# Altium schematic symbol library Regulator_Linear.SchLib: 1620 symbols (part 15 of 16)
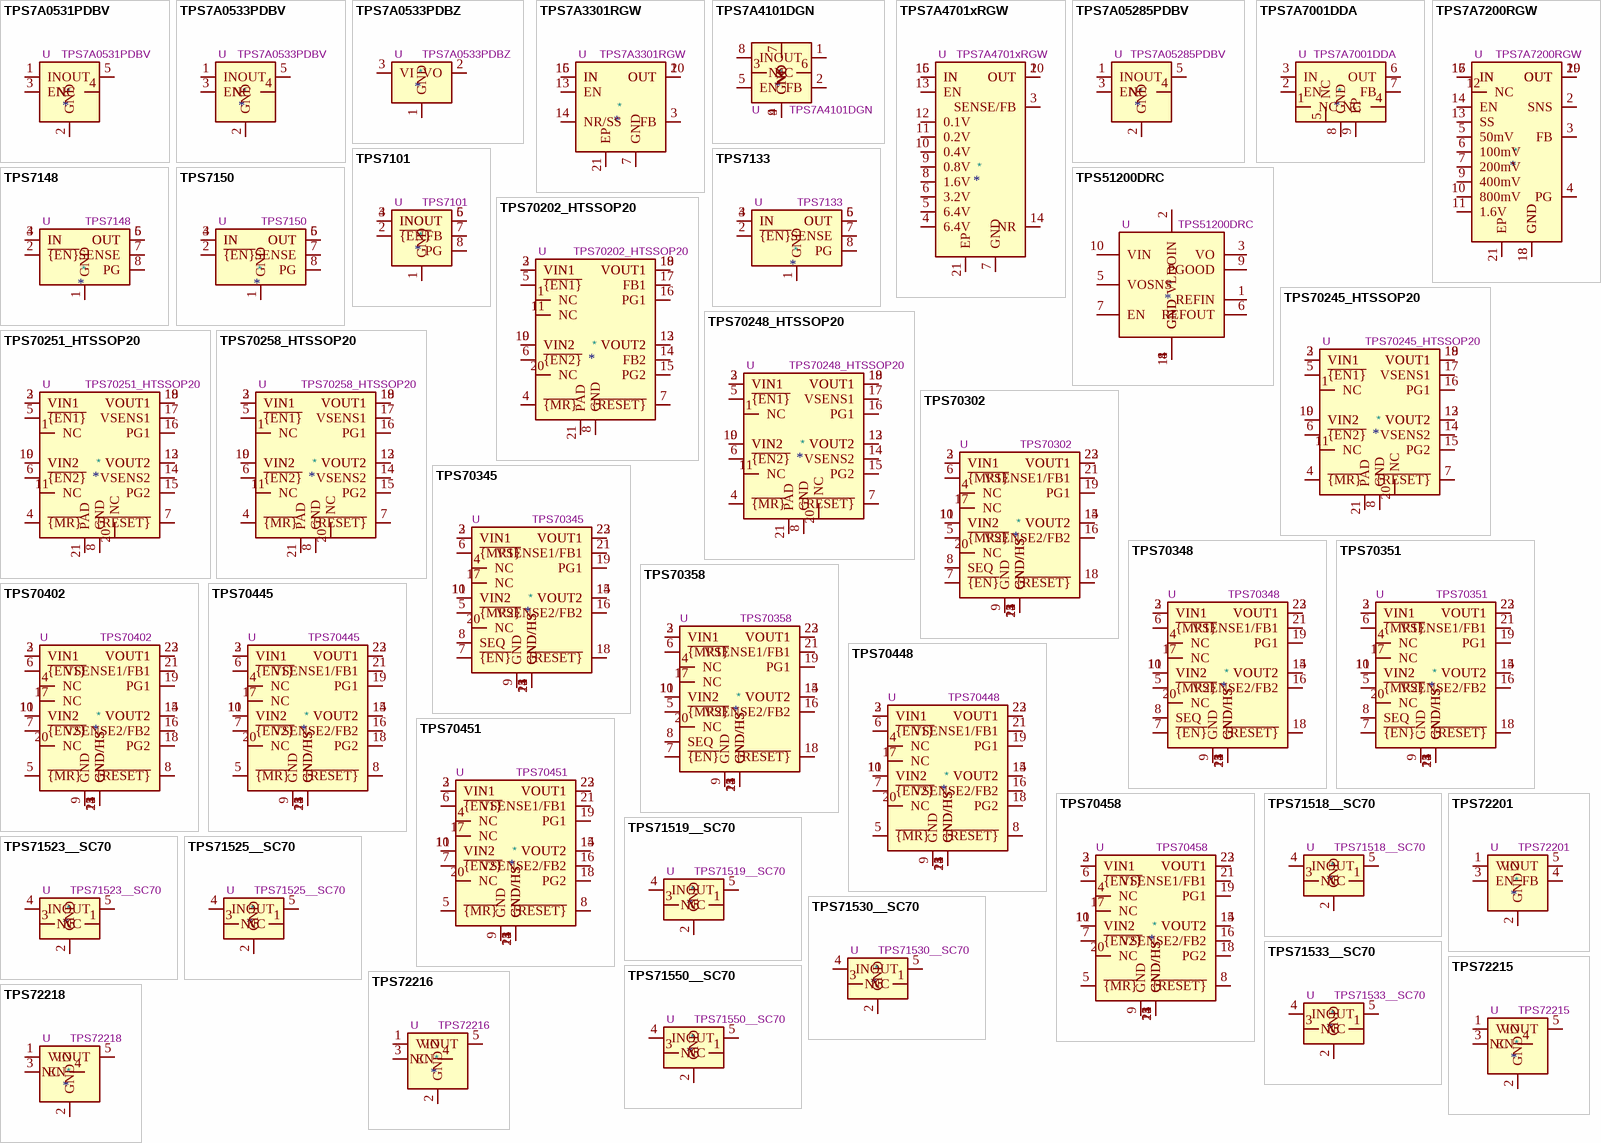
[diagram p54: symbols TPS7A0531PDBV to TPS72218]

## TPS7133
designator *  value TPS7133  Reference: U
500mA Low Drop-out Voltage Regulator, Fixed Output 3.3V, SO-8/DIP-8; ki_keywords: LDO Voltage Regulator 500mA; ki_fp_filters: SOIC*3.9x4.9mm*P1.27mm* DIP*W7.62mm*; Datasheet: http://www.ti.com/lit/ds/symlink/tps71.pdf; Description_: 500mA Low Drop-out Voltage Regulator, Fixed Output 3.3V, SO-8/DIP-8
pins: 1 GND, 2 ~{{EN}}, 3 IN, 4 IN, 5 OUT, 6 OUT, 7 SENSE, 8 PG

## TPS7148
designator *  value TPS7148  Reference: U
500mA Low Drop-out Voltage Regulator, Fixed Output 4.85V, SO-8/DIP-8; ki_keywords: LDO Voltage Regulator 500mA; ki_fp_filters: SOIC*3.9x4.9mm*P1.27mm* DIP*W7.62mm*; Datasheet: http://www.ti.com/lit/ds/symlink/tps71.pdf; Description_: 500mA Low Drop-out Voltage Regulator, Fixed Output 4.85V, SO-8/DIP-8
pins: 1 GND, 2 ~{{EN}}, 3 IN, 4 IN, 5 OUT, 6 OUT, 7 SENSE, 8 PG

## TPS7150
designator *  value TPS7150  Reference: U
500mA Low Drop-out Voltage Regulator, Fixed Output 5V, SO-8/DIP-8; ki_keywords: LDO Voltage Regulator 500mA; ki_fp_filters: SOIC*3.9x4.9mm*P1.27mm* DIP*W7.62mm*; Datasheet: http://www.ti.com/lit/ds/symlink/tps71.pdf; Description_: 500mA Low Drop-out Voltage Regulator, Fixed Output 5V, SO-8/DIP-8
pins: 1 GND, 2 ~{{EN}}, 3 IN, 4 IN, 5 OUT, 6 OUT, 7 SENSE, 8 PG

## TPS51200DRC
designator *  value TPS51200DRC  Reference: U
Sink and Source DDR Termination Regulator, VSON-10; ki_keywords: DDR LDO; ki_fp_filters: *VSON?10?1EP?3x3mm?P0.5mm*; Footprint: Package_SON:VSON-10-1EP_3x3mm_P0.5mm_EP1.65x2.4mm; Datasheet: http://www.ti.com/lit/ds/symlink/tps51200.pdf; Description_: Sink and Source DDR Termination Regulator, VSON-10
pins: 1 REFIN, 2 VLDOIN, 3 VO, 4 GND, 5 VOSNS, 6 REFOUT, 7 EN, 8 GND, 9 PGOOD, 10 VIN, 11 GND

## TPS70202_HTSSOP20
designator *  value TPS70202_HTSSOP20  Reference: U
500mA/250mA Dual Adjustable Low Drop-out Regulator with Voltage Supervisor, PowerPAD TSSOP-20; ki_keywords: Dual LDO Adjustable Regulator 500mA 250mA Voltage Supervisor; ki_fp_filters: HTSSOP*4.4x6.5mm*P0.65mm*; Footprint: Package_SO:HTSSOP-20-1EP_4.4x6.5mm_P0.65mm_EP3.4x6.5mm_ThermalVias; Datasheet: http://www.ti.com/lit/ds/symlink/tps702.pdf; Description_: 500mA/250mA Dual Adjustable Low Drop-out Regulator with Voltage Supervisor, PowerPAD TSSOP-20
pins: 1 NC, 2 VIN1, 3 VIN1, 4 ~{{MR}}, 5 ~{{EN1}}, 6 ~{{EN2}}, 7 ~{{RESET}}, 8 GND, 9 VIN2, 10 VIN2, 11 NC, 12 VOUT2, 13 VOUT2, 14 FB2, 15 PG2, 16 PG1, 17 FB1, 18 VOUT1, 19 VOUT1, 20 NC, 21 PAD

## TPS70245_HTSSOP20
designator *  value TPS70245_HTSSOP20  Reference: U
3.3V 500mA/1.2V 250mA Dual Low Drop-out Regulator with Voltage Supervisor, PowerPAD TSSOP-20; ki_keywords: Dual 3.3V 1.2V LDO Regulator 500mA 250mA Voltage Supervisor; ki_fp_filters: HTSSOP*4.4x6.5mm*P0.65mm*; Footprint: Package_SO:HTSSOP-20-1EP_4.4x6.5mm_P0.65mm_EP3.4x6.5mm_ThermalVias; Datasheet: http://www.ti.com/lit/ds/symlink/tps702.pdf; Description_: 3.3V 500mA/1.2V 250mA Dual Low Drop-out Regulator with Voltage Supervisor, PowerPAD TSSOP-20
pins: 1 NC, 2 VIN1, 3 VIN1, 4 ~{{MR}}, 5 ~{{EN1}}, 6 ~{{EN2}}, 7 ~{{RESET}}, 8 GND, 9 VIN2, 10 VIN2, 11 NC, 12 VOUT2, 13 VOUT2, 14 VSENS2, 15 PG2, 16 PG1, 17 VSENS1, 18 VOUT1, 19 VOUT1, 20 NC, 21 PAD

## TPS70248_HTSSOP20
designator *  value TPS70248_HTSSOP20  Reference: U
3.3V 500mA/1.5V 250mA Dual Low Drop-out Regulator with Voltage Supervisor, PowerPAD TSSOP-20; ki_keywords: Dual 3.3V 1.5V LDO Regulator 500mA 250mA Voltage Supervisor; ki_fp_filters: HTSSOP*4.4x6.5mm*P0.65mm*; Footprint: Package_SO:HTSSOP-20-1EP_4.4x6.5mm_P0.65mm_EP3.4x6.5mm_ThermalVias; Datasheet: http://www.ti.com/lit/ds/symlink/tps702.pdf; Description_: 3.3V 500mA/1.5V 250mA Dual Low Drop-out Regulator with Voltage Supervisor, PowerPAD TSSOP-20
pins: 1 NC, 2 VIN1, 3 VIN1, 4 ~{{MR}}, 5 ~{{EN1}}, 6 ~{{EN2}}, 7 ~{{RESET}}, 8 GND, 9 VIN2, 10 VIN2, 11 NC, 12 VOUT2, 13 VOUT2, 14 VSENS2, 15 PG2, 16 PG1, 17 VSENS1, 18 VOUT1, 19 VOUT1, 20 NC, 21 PAD

## TPS70251_HTSSOP20
designator *  value TPS70251_HTSSOP20  Reference: U
3.3V 500mA/1.8V 250mA Dual Low Drop-out Regulator with Voltage Supervisor, PowerPAD TSSOP-20; ki_keywords: Dual 3.3V 1.8V LDO Regulator 500mA 250mA Voltage Supervisor; ki_fp_filters: HTSSOP*4.4x6.5mm*P0.65mm*; Footprint: Package_SO:HTSSOP-20-1EP_4.4x6.5mm_P0.65mm_EP3.4x6.5mm_ThermalVias; Datasheet: http://www.ti.com/lit/ds/symlink/tps702.pdf; Description_: 3.3V 500mA/1.8V 250mA Dual Low Drop-out Regulator with Voltage Supervisor, PowerPAD TSSOP-20
pins: 1 NC, 2 VIN1, 3 VIN1, 4 ~{{MR}}, 5 ~{{EN1}}, 6 ~{{EN2}}, 7 ~{{RESET}}, 8 GND, 9 VIN2, 10 VIN2, 11 NC, 12 VOUT2, 13 VOUT2, 14 VSENS2, 15 PG2, 16 PG1, 17 VSENS1, 18 VOUT1, 19 VOUT1, 20 NC, 21 PAD

## TPS70258_HTSSOP20
designator *  value TPS70258_HTSSOP20  Reference: U
3.3V 500mA/2.5V 250mA Dual Low Drop-out Regulator with Voltage Supervisor, PowerPAD TSSOP-20; ki_keywords: Dual 3.3V 2.5V LDO Regulator 500mA 250mA Voltage Supervisor; ki_fp_filters: HTSSOP*4.4x6.5mm*P0.65mm*; Footprint: Package_SO:HTSSOP-20-1EP_4.4x6.5mm_P0.65mm_EP3.4x6.5mm_ThermalVias; Datasheet: http://www.ti.com/lit/ds/symlink/tps702.pdf; Description_: 3.3V 500mA/2.5V 250mA Dual Low Drop-out Regulator with Voltage Supervisor, PowerPAD TSSOP-20
pins: 1 NC, 2 VIN1, 3 VIN1, 4 ~{{MR}}, 5 ~{{EN1}}, 6 ~{{EN2}}, 7 ~{{RESET}}, 8 GND, 9 VIN2, 10 VIN2, 11 NC, 12 VOUT2, 13 VOUT2, 14 VSENS2, 15 PG2, 16 PG1, 17 VSENS1, 18 VOUT1, 19 VOUT1, 20 NC, 21 PAD

## TPS70302
designator *  value TPS70302  Reference: U
Dual-Output, Low Dropout Voltage Regulators With Integrated SVS For Split Voltage Systems, Sequenced Outputs, ADJ 1A/ADJ 2A, HTSSOP-24; ki_keywords: dual ldo regulator; ki_fp_filters: HTSSOP*4.4x7.8mm*P0.65mm*; Footprint: Package_SO:HTSSOP-24-1EP_4.4x7.8mm_P0.65mm_EP3.4x7.8mm_Mask2.4x4.68mm_ThermalVias; Datasheet: http://www.ti.com/lit/ds/symlink/tps703.pdf; Description_: Dual-Output, Low Dropout Voltage Regulators With Integrated SVS For Split Voltage Systems, Sequenced Outputs, ADJ 1A/ADJ 2A, HTSSOP-24
pins: 1 GND/HS, 2 VIN1, 3 VIN1, 4 NC, 5 ~{{MR2}}, 6 ~{{MR1}}, 7 ~{{EN}}, 8 SEQ, 9 GND, 10 VIN2, 11 VIN2, 12 GND/HS, 13 GND/HS, 14 VOUT2, 15 VOUT2, 16 VSENSE2/FB2, 17 NC, 18 ~{{RESET}}, 19 PG1, 20 NC, 21 VSENSE1/FB1, 22 VOUT1, 23 VOUT1, 24 GND/HS, 25 GND/HS

## TPS70345
designator *  value TPS70345  Reference: U
Dual-Output, Low Dropout Voltage Regulators With Integrated SVS For Split Voltage Systems, Sequenced Outputs, 3.3V 1A/1.2V 2A, HTSSOP-24; ki_keywords: dual ldo regulator; ki_fp_filters: HTSSOP*4.4x7.8mm*P0.65mm*; Footprint: Package_SO:HTSSOP-24-1EP_4.4x7.8mm_P0.65mm_EP3.4x7.8mm_Mask2.4x4.68mm_ThermalVias; Datasheet: http://www.ti.com/lit/ds/symlink/tps703.pdf; Description_: Dual-Output, Low Dropout Voltage Regulators With Integrated SVS For Split Voltage Systems, Sequenced Outputs, 3.3V 1A/1.2V 2A, HTSSOP-24
pins: 1 GND/HS, 2 VIN1, 3 VIN1, 4 NC, 5 ~{{MR2}}, 6 ~{{MR1}}, 7 ~{{EN}}, 8 SEQ, 9 GND, 10 VIN2, 11 VIN2, 12 GND/HS, 13 GND/HS, 14 VOUT2, 15 VOUT2, 16 VSENSE2/FB2, 17 NC, 18 ~{{RESET}}, 19 PG1, 20 NC, 21 VSENSE1/FB1, 22 VOUT1, 23 VOUT1, 24 GND/HS, 25 GND/HS

## TPS70348
designator *  value TPS70348  Reference: U
Dual-Output, Low Dropout Voltage Regulators With Integrated SVS For Split Voltage Systems, Sequenced Outputs, 3.3V 1A/1.5V 2A, HTSSOP-24; ki_keywords: dual ldo regulator; ki_fp_filters: HTSSOP*4.4x7.8mm*P0.65mm*; Footprint: Package_SO:HTSSOP-24-1EP_4.4x7.8mm_P0.65mm_EP3.4x7.8mm_Mask2.4x4.68mm_ThermalVias; Datasheet: http://www.ti.com/lit/ds/symlink/tps703.pdf; Description_: Dual-Output, Low Dropout Voltage Regulators With Integrated SVS For Split Voltage Systems, Sequenced Outputs, 3.3V 1A/1.5V 2A, HTSSOP-24
pins: 1 GND/HS, 2 VIN1, 3 VIN1, 4 NC, 5 ~{{MR2}}, 6 ~{{MR1}}, 7 ~{{EN}}, 8 SEQ, 9 GND, 10 VIN2, 11 VIN2, 12 GND/HS, 13 GND/HS, 14 VOUT2, 15 VOUT2, 16 VSENSE2/FB2, 17 NC, 18 ~{{RESET}}, 19 PG1, 20 NC, 21 VSENSE1/FB1, 22 VOUT1, 23 VOUT1, 24 GND/HS, 25 GND/HS

## TPS70351
designator *  value TPS70351  Reference: U
Dual-Output, Low Dropout Voltage Regulators With Integrated SVS For Split Voltage Systems, Sequenced Outputs, 3.3V 1A/1.8V 2A, HTSSOP-24; ki_keywords: dual ldo regulator; ki_fp_filters: HTSSOP*4.4x7.8mm*P0.65mm*; Footprint: Package_SO:HTSSOP-24-1EP_4.4x7.8mm_P0.65mm_EP3.4x7.8mm_Mask2.4x4.68mm_ThermalVias; Datasheet: http://www.ti.com/lit/ds/symlink/tps703.pdf; Description_: Dual-Output, Low Dropout Voltage Regulators With Integrated SVS For Split Voltage Systems, Sequenced Outputs, 3.3V 1A/1.8V 2A, HTSSOP-24
pins: 1 GND/HS, 2 VIN1, 3 VIN1, 4 NC, 5 ~{{MR2}}, 6 ~{{MR1}}, 7 ~{{EN}}, 8 SEQ, 9 GND, 10 VIN2, 11 VIN2, 12 GND/HS, 13 GND/HS, 14 VOUT2, 15 VOUT2, 16 VSENSE2/FB2, 17 NC, 18 ~{{RESET}}, 19 PG1, 20 NC, 21 VSENSE1/FB1, 22 VOUT1, 23 VOUT1, 24 GND/HS, 25 GND/HS

## TPS70358
designator *  value TPS70358  Reference: U
Dual-Output, Low Dropout Voltage Regulators With Integrated SVS For Split Voltage Systems, Sequenced Outputs, 3.3V 1A/2.5V 2A, HTSSOP-24; ki_keywords: dual ldo regulator; ki_fp_filters: HTSSOP*4.4x7.8mm*P0.65mm*; Footprint: Package_SO:HTSSOP-24-1EP_4.4x7.8mm_P0.65mm_EP3.4x7.8mm_Mask2.4x4.68mm_ThermalVias; Datasheet: http://www.ti.com/lit/ds/symlink/tps703.pdf; Description_: Dual-Output, Low Dropout Voltage Regulators With Integrated SVS For Split Voltage Systems, Sequenced Outputs, 3.3V 1A/2.5V 2A, HTSSOP-24
pins: 1 GND/HS, 2 VIN1, 3 VIN1, 4 NC, 5 ~{{MR2}}, 6 ~{{MR1}}, 7 ~{{EN}}, 8 SEQ, 9 GND, 10 VIN2, 11 VIN2, 12 GND/HS, 13 GND/HS, 14 VOUT2, 15 VOUT2, 16 VSENSE2/FB2, 17 NC, 18 ~{{RESET}}, 19 PG1, 20 NC, 21 VSENSE1/FB1, 22 VOUT1, 23 VOUT1, 24 GND/HS, 25 GND/HS

## TPS70402
designator *  value TPS70402  Reference: U
Dual-Output, Low Dropout Voltage Regulators With Integrated SVS For Split Voltage Systems, Independent Enable, ADJ 1A/ADJ 2A, HTSSOP-24; ki_keywords: dual ldo regulator; ki_fp_filters: HTSSOP*4.4x7.8mm*P0.65mm*; Footprint: Package_SO:HTSSOP-24-1EP_4.4x7.8mm_P0.65mm_EP3.4x7.8mm_Mask2.4x4.68mm_ThermalVias; Datasheet: http://www.ti.com/lit/ds/symlink/tps704.pdf; Description_: Dual-Output, Low Dropout Voltage Regulators With Integrated SVS For Split Voltage Systems, Independent Enable, ADJ 1A/ADJ 2A, HTSSOP-24
pins: 1 GND/HS, 2 VIN1, 3 VIN1, 4 NC, 5 ~{{MR}}, 6 ~{{EN1}}, 7 ~{{EN2}}, 8 ~{{RESET}}, 9 GND, 10 VIN2, 11 VIN2, 12 GND/HS, 13 GND/HS, 14 VOUT2, 15 VOUT2, 16 VSENSE2/FB2, 17 NC, 18 PG2, 19 PG1, 20 NC, 21 VSENSE1/FB1, 22 VOUT1, 23 VOUT1, 24 GND/HS, 25 GND/HS

## TPS70445
designator *  value TPS70445  Reference: U
Dual-Output, Low Dropout Voltage Regulators With Integrated SVS For Split Voltage Systems, Independent Enable, 3.3V 1A/1.2V 2A, HTSSOP-24; ki_keywords: dual ldo regulator; ki_fp_filters: HTSSOP*4.4x7.8mm*P0.65mm*; Footprint: Package_SO:HTSSOP-24-1EP_4.4x7.8mm_P0.65mm_EP3.4x7.8mm_Mask2.4x4.68mm_ThermalVias; Datasheet: http://www.ti.com/lit/ds/symlink/tps704.pdf; Description_: Dual-Output, Low Dropout Voltage Regulators With Integrated SVS For Split Voltage Systems, Independent Enable, 3.3V 1A/1.2V 2A, HTSSOP-24
pins: 1 GND/HS, 2 VIN1, 3 VIN1, 4 NC, 5 ~{{MR}}, 6 ~{{EN1}}, 7 ~{{EN2}}, 8 ~{{RESET}}, 9 GND, 10 VIN2, 11 VIN2, 12 GND/HS, 13 GND/HS, 14 VOUT2, 15 VOUT2, 16 VSENSE2/FB2, 17 NC, 18 PG2, 19 PG1, 20 NC, 21 VSENSE1/FB1, 22 VOUT1, 23 VOUT1, 24 GND/HS, 25 GND/HS

## TPS70448
designator *  value TPS70448  Reference: U
Dual-Output, Low Dropout Voltage Regulators With Integrated SVS For Split Voltage Systems, Independent Enable, 3.3V 1A/1.5V 2A, HTSSOP-24; ki_keywords: dual ldo regulator; ki_fp_filters: HTSSOP*4.4x7.8mm*P0.65mm*; Footprint: Package_SO:HTSSOP-24-1EP_4.4x7.8mm_P0.65mm_EP3.4x7.8mm_Mask2.4x4.68mm_ThermalVias; Datasheet: http://www.ti.com/lit/ds/symlink/tps704.pdf; Description_: Dual-Output, Low Dropout Voltage Regulators With Integrated SVS For Split Voltage Systems, Independent Enable, 3.3V 1A/1.5V 2A, HTSSOP-24
pins: 1 GND/HS, 2 VIN1, 3 VIN1, 4 NC, 5 ~{{MR}}, 6 ~{{EN1}}, 7 ~{{EN2}}, 8 ~{{RESET}}, 9 GND, 10 VIN2, 11 VIN2, 12 GND/HS, 13 GND/HS, 14 VOUT2, 15 VOUT2, 16 VSENSE2/FB2, 17 NC, 18 PG2, 19 PG1, 20 NC, 21 VSENSE1/FB1, 22 VOUT1, 23 VOUT1, 24 GND/HS, 25 GND/HS

## TPS70451
designator *  value TPS70451  Reference: U
Dual-Output, Low Dropout Voltage Regulators With Integrated SVS For Split Voltage Systems, Independent Enable, 3.3V 1A/1.8V 2A, HTSSOP-24; ki_keywords: dual ldo regulator; ki_fp_filters: HTSSOP*4.4x7.8mm*P0.65mm*; Footprint: Package_SO:HTSSOP-24-1EP_4.4x7.8mm_P0.65mm_EP3.4x7.8mm_Mask2.4x4.68mm_ThermalVias; Datasheet: http://www.ti.com/lit/ds/symlink/tps704.pdf; Description_: Dual-Output, Low Dropout Voltage Regulators With Integrated SVS For Split Voltage Systems, Independent Enable, 3.3V 1A/1.8V 2A, HTSSOP-24
pins: 1 GND/HS, 2 VIN1, 3 VIN1, 4 NC, 5 ~{{MR}}, 6 ~{{EN1}}, 7 ~{{EN2}}, 8 ~{{RESET}}, 9 GND, 10 VIN2, 11 VIN2, 12 GND/HS, 13 GND/HS, 14 VOUT2, 15 VOUT2, 16 VSENSE2/FB2, 17 NC, 18 PG2, 19 PG1, 20 NC, 21 VSENSE1/FB1, 22 VOUT1, 23 VOUT1, 24 GND/HS, 25 GND/HS

## TPS70458
designator *  value TPS70458  Reference: U
Dual-Output, Low Dropout Voltage Regulators With Integrated SVS For Split Voltage Systems, Independent Enable, 3.3V 1A/2.5V 2A, HTSSOP-24; ki_keywords: dual ldo regulator; ki_fp_filters: HTSSOP*4.4x7.8mm*P0.65mm*; Footprint: Package_SO:HTSSOP-24-1EP_4.4x7.8mm_P0.65mm_EP3.4x7.8mm_Mask2.4x4.68mm_ThermalVias; Datasheet: http://www.ti.com/lit/ds/symlink/tps704.pdf; Description_: Dual-Output, Low Dropout Voltage Regulators With Integrated SVS For Split Voltage Systems, Independent Enable, 3.3V 1A/2.5V 2A, HTSSOP-24
pins: 1 GND/HS, 2 VIN1, 3 VIN1, 4 NC, 5 ~{{MR}}, 6 ~{{EN1}}, 7 ~{{EN2}}, 8 ~{{RESET}}, 9 GND, 10 VIN2, 11 VIN2, 12 GND/HS, 13 GND/HS, 14 VOUT2, 15 VOUT2, 16 VSENSE2/FB2, 17 NC, 18 PG2, 19 PG1, 20 NC, 21 VSENSE1/FB1, 22 VOUT1, 23 VOUT1, 24 GND/HS, 25 GND/HS

## TPS71518__SC70
designator *  value TPS71518__SC70  Reference: U
Low-drop Voltage Regulator, Io up to 50mA, Fixed Vo 1.8V, Ignd 3.2uA , SC70.; ki_keywords: LDO regulator voltage; ki_fp_filters: *SC?70*; Footprint: Package_TO_SOT_SMD:SOT-353_SC-70-5; Datasheet: http://www.ti.com/lit/ds/symlink/tps715.pdf; Description_: Low-drop Voltage Regulator, Io up to 50mA, Fixed Vo 1.8V, Ignd 3.2uA , SC70.
pins: 1 NC, 2 GND, 3 NC, 4 IN, 5 OUT

## TPS71519__SC70
designator *  value TPS71519__SC70  Reference: U
Low-drop Voltage Regulator, Io up to 50mA, Fixed Vo 1.9V, Ignd 3.2uA , SC70.; ki_keywords: LDO regulator voltage; ki_fp_filters: *SC?70*; Footprint: Package_TO_SOT_SMD:SOT-353_SC-70-5; Datasheet: http://www.ti.com/lit/ds/symlink/tps715.pdf; Description_: Low-drop Voltage Regulator, Io up to 50mA, Fixed Vo 1.9V, Ignd 3.2uA , SC70.
pins: 1 NC, 2 GND, 3 NC, 4 IN, 5 OUT

## TPS71523__SC70
designator *  value TPS71523__SC70  Reference: U
Low-drop Voltage Regulator, Io up to 50mA, Fixed Vo 2.3V, Ignd 3.2uA , SC70.; ki_keywords: LDO regulator voltage; ki_fp_filters: *SC?70*; Footprint: Package_TO_SOT_SMD:SOT-353_SC-70-5; Datasheet: http://www.ti.com/lit/ds/symlink/tps715.pdf; Description_: Low-drop Voltage Regulator, Io up to 50mA, Fixed Vo 2.3V, Ignd 3.2uA , SC70.
pins: 1 NC, 2 GND, 3 NC, 4 IN, 5 OUT

## TPS71525__SC70
designator *  value TPS71525__SC70  Reference: U
Low-drop Voltage Regulator, Io up to 50mA, Fixed Vo 2.5V, Ignd 3.2uA , SC70.; ki_keywords: LDO regulator voltage; ki_fp_filters: *SC?70*; Footprint: Package_TO_SOT_SMD:SOT-353_SC-70-5; Datasheet: http://www.ti.com/lit/ds/symlink/tps715.pdf; Description_: Low-drop Voltage Regulator, Io up to 50mA, Fixed Vo 2.5V, Ignd 3.2uA , SC70.
pins: 1 NC, 2 GND, 3 NC, 4 IN, 5 OUT

## TPS71530__SC70
designator *  value TPS71530__SC70  Reference: U
Low-drop Voltage Regulator, Io up to 50mA, Fixed Vo 3V, Ignd 3.2uA , SC70.; ki_keywords: LDO regulator voltage; ki_fp_filters: *SC?70*; Footprint: Package_TO_SOT_SMD:SOT-353_SC-70-5; Datasheet: http://www.ti.com/lit/ds/symlink/tps715.pdf; Description_: Low-drop Voltage Regulator, Io up to 50mA, Fixed Vo 3V, Ignd 3.2uA , SC70.
pins: 1 NC, 2 GND, 3 NC, 4 IN, 5 OUT

## TPS71533__SC70
designator *  value TPS71533__SC70  Reference: U
Low-drop Voltage Regulator, Io up to 50mA, Fixed Vo 3.3V, Ignd 3.2uA , SC70.; ki_keywords: LDO regulator voltage; ki_fp_filters: *SC?70*; Footprint: Package_TO_SOT_SMD:SOT-353_SC-70-5; Datasheet: http://www.ti.com/lit/ds/symlink/tps715.pdf; Description_: Low-drop Voltage Regulator, Io up to 50mA, Fixed Vo 3.3V, Ignd 3.2uA , SC70.
pins: 1 NC, 2 GND, 3 NC, 4 IN, 5 OUT

## TPS71550__SC70
designator *  value TPS71550__SC70  Reference: U
Low-drop Voltage Regulator, Io up to 50mA, Fixed Vo 5V, Ignd 3.2uA , SC70.; ki_keywords: LDO regulator voltage; ki_fp_filters: *SC?70*; Footprint: Package_TO_SOT_SMD:SOT-353_SC-70-5; Datasheet: http://www.ti.com/lit/ds/symlink/tps715.pdf; Description_: Low-drop Voltage Regulator, Io up to 50mA, Fixed Vo 5V, Ignd 3.2uA , SC70.
pins: 1 NC, 2 GND, 3 NC, 4 IN, 5 OUT

## TPS72201
designator *  value TPS72201  Reference: U
Low input voltage 50mA LDO variable output voltage, SOT-23-5; ki_keywords: linear low dropout Regulator adjustable; ki_fp_filters: SOT?23*; Footprint: Package_TO_SOT_SMD:SOT-23-5; Datasheet: http://www.ti.com/lit/ds/symlink/tps722.pdf; Description_: Low input voltage 50mA LDO variable output voltage, SOT-23-5
pins: 1 VIN, 2 GND, 3 EN, 4 FB, 5 VOUT

## TPS72215
designator *  value TPS72215  Reference: U
Low input voltage 50mA LDO, 1.5V fixed output voltage, SOT-23-5; ki_keywords: linear low dropout Regulator fixed; ki_fp_filters: SOT?23*; Footprint: Package_TO_SOT_SMD:SOT-23-5; Datasheet: http://www.ti.com/lit/ds/symlink/tps722.pdf; Description_: Low input voltage 50mA LDO, 1.5V fixed output voltage, SOT-23-5
pins: 1 VIN, 2 GND, 3 EN, 4 NC, 5 VOUT

## TPS72216
designator *  value TPS72216  Reference: U
Low input voltage 50mA LDO, 1.6V fixed output voltage, SOT-23-5; ki_keywords: linear low dropout Regulator fixed; ki_fp_filters: SOT?23*; Footprint: Package_TO_SOT_SMD:SOT-23-5; Datasheet: http://www.ti.com/lit/ds/symlink/tps722.pdf; Description_: Low input voltage 50mA LDO, 1.6V fixed output voltage, SOT-23-5
pins: 1 VIN, 2 GND, 3 EN, 4 NC, 5 VOUT

## TPS72218
designator *  value TPS72218  Reference: U
Low input voltage 50mA LDO, 1.8V fixed output voltage, SOT-23-5; ki_keywords: linear low dropout Regulator fixed; ki_fp_filters: SOT?23*; Footprint: Package_TO_SOT_SMD:SOT-23-5; Datasheet: http://www.ti.com/lit/ds/symlink/tps722.pdf; Description_: Low input voltage 50mA LDO, 1.8V fixed output voltage, SOT-23-5
pins: 1 VIN, 2 GND, 3 EN, 4 NC, 5 VOUT

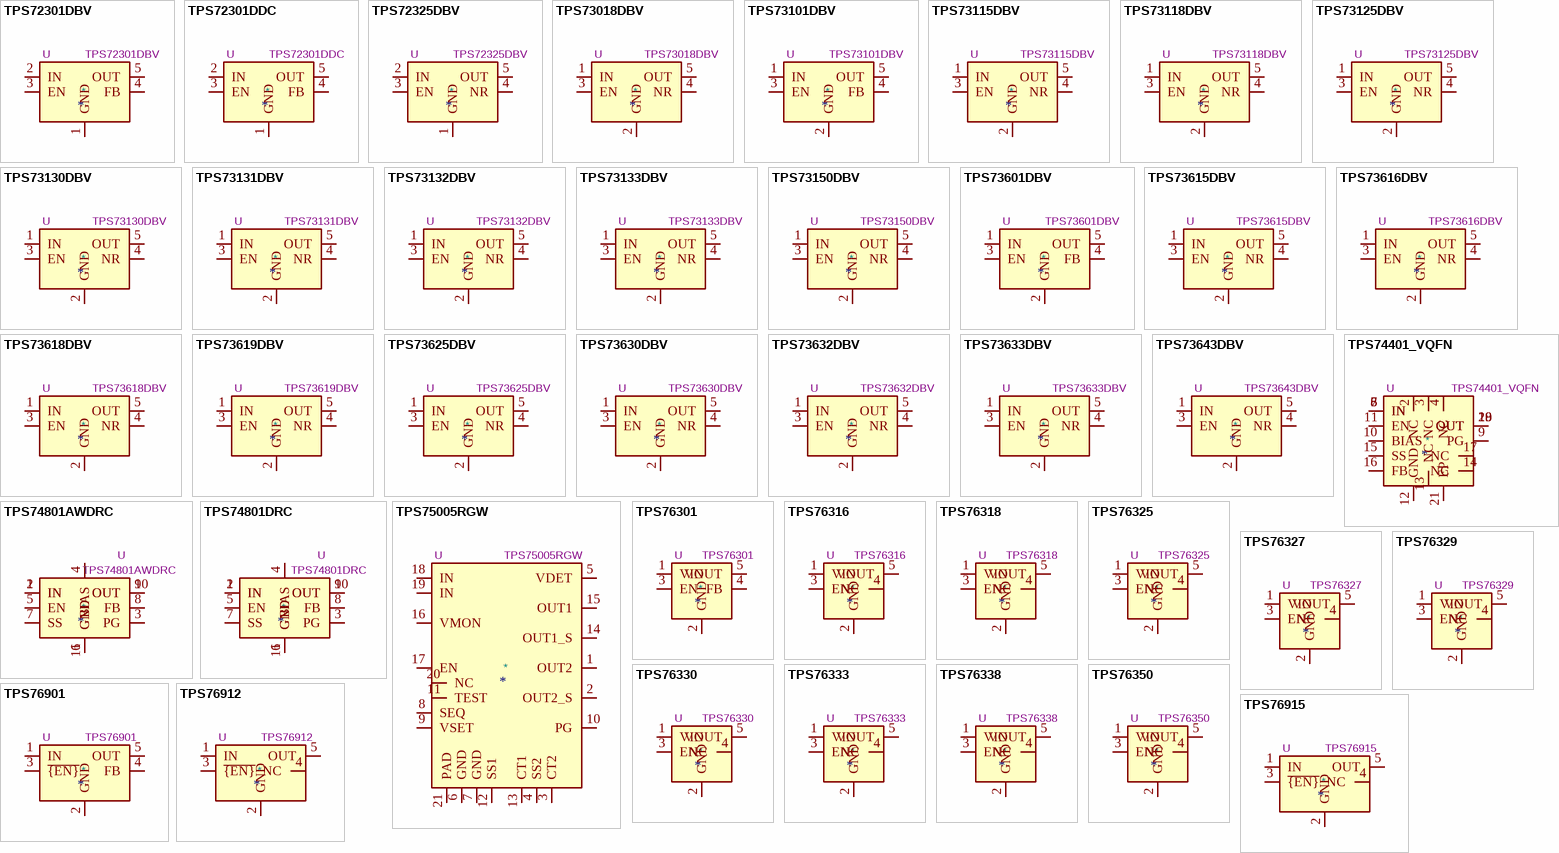
[diagram p38: symbols TPS72301DBV to TPS76915]

## TPS72301DBV
designator *  value TPS72301DBV  Reference: U
200-mA, Low-Noise, High-PSRR, Negative Output Low-Dropout Linear Regulator, Adjustable Output (-1.2 V to -10 V), SOT-23-5; ki_fp_filters: SOT?23*; Footprint: Package_TO_SOT_SMD:SOT-23-5; Datasheet: https://www.ti.com/lit/ds/symlink/tps723.pdf; Description_: 200-mA, Low-Noise, High-PSRR, Negative Output Low-Dropout Linear Regulator, Adjustable Output (-1.2 V to -10 V), SOT-23-5
pins: 1 GND, 2 IN, 3 EN, 4 FB, 5 OUT

## TPS72301DDC
designator *  value TPS72301DDC  Reference: U
200-mA, Low-Noise, High-PSRR, Negative Output Low-Dropout Linear Regulator, Adjustable Output (-1.2 V to -10 V), TSOT-23-5; ki_fp_filters: TSOT?23*; Footprint: Package_TO_SOT_SMD:TSOT-23-5; Datasheet: https://www.ti.com/lit/ds/symlink/tps723.pdf; Description_: 200-mA, Low-Noise, High-PSRR, Negative Output Low-Dropout Linear Regulator, Adjustable Output (-1.2 V to -10 V), TSOT-23-5
pins: 1 GND, 2 IN, 3 EN, 4 FB, 5 OUT

## TPS72325DBV
designator *  value TPS72325DBV  Reference: U
200-mA, Low-Noise, High-PSRR, Negative Output Low-Dropout Linear Regulator, Fixed Output -2.5 V, SOT-23-5; ki_fp_filters: SOT?23*; Footprint: Package_TO_SOT_SMD:SOT-23-5; Datasheet: https://www.ti.com/lit/ds/symlink/tps723.pdf; Description_: 200-mA, Low-Noise, High-PSRR, Negative Output Low-Dropout Linear Regulator, Fixed Output -2.5 V, SOT-23-5
pins: 1 GND, 2 IN, 3 EN, 4 NR, 5 OUT

## TPS73018DBV
designator *  value TPS73018DBV  Reference: U
Low Noise, High PSRR, 200mA Low Drop 1.8V Regulator, SOT-23-5; ki_keywords: Fixed LDO 200mA; ki_fp_filters: SOT?23*; Footprint: Package_TO_SOT_SMD:SOT-23-5; Datasheet: https://www.ti.com/lit/ds/symlink/tps730.pdf; Description_: Low Noise, High PSRR, 200mA Low Drop 1.8V Regulator, SOT-23-5
pins: 1 IN, 2 GND, 3 EN, 4 NR, 5 OUT

## TPS73101DBV
designator *  value TPS73101DBV  Reference: U
Cap free NMOS 150mA Low Drop Adjustable Out Regulator, SOT-23-5; ki_keywords: Cap free Adjustable LDO 150mA; ki_fp_filters: SOT?23*; Footprint: Package_TO_SOT_SMD:SOT-23-5; Datasheet: http://www.ti.com/lit/ds/symlink/tps731.pdf; Description_: Cap free NMOS 150mA Low Drop Adjustable Out Regulator, SOT-23-5
pins: 1 IN, 2 GND, 3 EN, 4 FB, 5 OUT

## TPS73115DBV
designator *  value TPS73115DBV  Reference: U
Cap free NMOS 150mA Low Drop 1.5V Regulator, SOT-23-5; ki_keywords: Cap free Fixed LDO 150mA; ki_fp_filters: SOT?23*; Footprint: Package_TO_SOT_SMD:SOT-23-5; Datasheet: http://www.ti.com/lit/ds/symlink/tps731.pdf; Description_: Cap free NMOS 150mA Low Drop 1.5V Regulator, SOT-23-5
pins: 1 IN, 2 GND, 3 EN, 4 NR, 5 OUT

## TPS73118DBV
designator *  value TPS73118DBV  Reference: U
Cap free NMOS 150mA Low Drop 1.8V Regulator, SOT-23-5; ki_keywords: Cap free Fixed LDO 150mA; ki_fp_filters: SOT?23*; Footprint: Package_TO_SOT_SMD:SOT-23-5; Datasheet: http://www.ti.com/lit/ds/symlink/tps731.pdf; Description_: Cap free NMOS 150mA Low Drop 1.8V Regulator, SOT-23-5
pins: 1 IN, 2 GND, 3 EN, 4 NR, 5 OUT

## TPS73125DBV
designator *  value TPS73125DBV  Reference: U
Cap free NMOS 150mA Low Drop 2.5V Regulator, SOT-23-5; ki_keywords: Cap free Fixed LDO 150mA; ki_fp_filters: SOT?23*; Footprint: Package_TO_SOT_SMD:SOT-23-5; Datasheet: http://www.ti.com/lit/ds/symlink/tps731.pdf; Description_: Cap free NMOS 150mA Low Drop 2.5V Regulator, SOT-23-5
pins: 1 IN, 2 GND, 3 EN, 4 NR, 5 OUT

## TPS73130DBV
designator *  value TPS73130DBV  Reference: U
Cap free NMOS 150mA Low Drop 3.0V Regulator, SOT-23-5; ki_keywords: Cap free Fixed LDO 150mA; ki_fp_filters: SOT?23*; Footprint: Package_TO_SOT_SMD:SOT-23-5; Datasheet: http://www.ti.com/lit/ds/symlink/tps731.pdf; Description_: Cap free NMOS 150mA Low Drop 3.0V Regulator, SOT-23-5
pins: 1 IN, 2 GND, 3 EN, 4 NR, 5 OUT

## TPS73131DBV
designator *  value TPS73131DBV  Reference: U
Cap free NMOS 150mA Low Drop 3.1V Regulator, SOT-23-5; ki_keywords: Cap free Fixed LDO 150mA; ki_fp_filters: SOT?23*; Footprint: Package_TO_SOT_SMD:SOT-23-5; Datasheet: http://www.ti.com/lit/ds/symlink/tps731.pdf; Description_: Cap free NMOS 150mA Low Drop 3.1V Regulator, SOT-23-5
pins: 1 IN, 2 GND, 3 EN, 4 NR, 5 OUT

## TPS73132DBV
designator *  value TPS73132DBV  Reference: U
Cap free NMOS 150mA Low Drop 3.2V Regulator, SOT-23-5; ki_keywords: Cap free Fixed LDO 150mA; ki_fp_filters: SOT?23*; Footprint: Package_TO_SOT_SMD:SOT-23-5; Datasheet: http://www.ti.com/lit/ds/symlink/tps731.pdf; Description_: Cap free NMOS 150mA Low Drop 3.2V Regulator, SOT-23-5
pins: 1 IN, 2 GND, 3 EN, 4 NR, 5 OUT

## TPS73133DBV
designator *  value TPS73133DBV  Reference: U
Cap free NMOS 150mA Low Drop 3.3V Regulator, SOT-23-5; ki_keywords: Cap free Fixed LDO 150mA; ki_fp_filters: SOT?23*; Footprint: Package_TO_SOT_SMD:SOT-23-5; Datasheet: http://www.ti.com/lit/ds/symlink/tps731.pdf; Description_: Cap free NMOS 150mA Low Drop 3.3V Regulator, SOT-23-5
pins: 1 IN, 2 GND, 3 EN, 4 NR, 5 OUT

## TPS73150DBV
designator *  value TPS73150DBV  Reference: U
Cap free NMOS 150mA Low Drop 5.0V Regulator, SOT-23-5; ki_keywords: Cap free Fixed LDO 150mA; ki_fp_filters: SOT?23*; Footprint: Package_TO_SOT_SMD:SOT-23-5; Datasheet: http://www.ti.com/lit/ds/symlink/tps731.pdf; Description_: Cap free NMOS 150mA Low Drop 5.0V Regulator, SOT-23-5
pins: 1 IN, 2 GND, 3 EN, 4 NR, 5 OUT

## TPS73601DBV
designator *  value TPS73601DBV  Reference: U
Cap free NMOS 400mA Low Drop Adjustable Out Regulator, SOT-23-5; ki_keywords: Cap free Adjustable LDO 400mA; ki_fp_filters: SOT?23*; Footprint: Package_TO_SOT_SMD:SOT-23-5; Datasheet: http://www.ti.com/lit/ds/symlink/tps736.pdf; Description_: Cap free NMOS 400mA Low Drop Adjustable Out Regulator, SOT-23-5
pins: 1 IN, 2 GND, 3 EN, 4 FB, 5 OUT

## TPS73615DBV
designator *  value TPS73615DBV  Reference: U
Cap free NMOS 400mA Low Drop 1.5V Regulator, SOT-23-5; ki_keywords: Cap free Fixed LDO 400mA; ki_fp_filters: SOT?23*; Footprint: Package_TO_SOT_SMD:SOT-23-5; Datasheet: http://www.ti.com/lit/ds/symlink/tps736.pdf; Description_: Cap free NMOS 400mA Low Drop 1.5V Regulator, SOT-23-5
pins: 1 IN, 2 GND, 3 EN, 4 NR, 5 OUT

## TPS73616DBV
designator *  value TPS73616DBV  Reference: U
Cap free NMOS 400mA Low Drop 1.6V Regulator, SOT-23-5; ki_keywords: Cap free Fixed LDO 400mA; ki_fp_filters: SOT?23*; Footprint: Package_TO_SOT_SMD:SOT-23-5; Datasheet: http://www.ti.com/lit/ds/symlink/tps736.pdf; Description_: Cap free NMOS 400mA Low Drop 1.6V Regulator, SOT-23-5
pins: 1 IN, 2 GND, 3 EN, 4 NR, 5 OUT

## TPS73618DBV
designator *  value TPS73618DBV  Reference: U
Cap free NMOS 400mA Low Drop 1.8V Regulator, SOT-23-5; ki_keywords: Cap free Fixed LDO 400mA; ki_fp_filters: SOT?23*; Footprint: Package_TO_SOT_SMD:SOT-23-5; Datasheet: http://www.ti.com/lit/ds/symlink/tps736.pdf; Description_: Cap free NMOS 400mA Low Drop 1.8V Regulator, SOT-23-5
pins: 1 IN, 2 GND, 3 EN, 4 NR, 5 OUT

## TPS73619DBV
designator *  value TPS73619DBV  Reference: U
Cap free NMOS 400mA Low Drop 1.9V Regulator, SOT-23-5; ki_keywords: Cap free Fixed LDO 400mA; ki_fp_filters: SOT?23*; Footprint: Package_TO_SOT_SMD:SOT-23-5; Datasheet: http://www.ti.com/lit/ds/symlink/tps736.pdf; Description_: Cap free NMOS 400mA Low Drop 1.9V Regulator, SOT-23-5
pins: 1 IN, 2 GND, 3 EN, 4 NR, 5 OUT

## TPS73625DBV
designator *  value TPS73625DBV  Reference: U
Cap free NMOS 400mA Low Drop 2.5V Regulator, SOT-23-5; ki_keywords: Cap free Fixed LDO 400mA; ki_fp_filters: SOT?23*; Footprint: Package_TO_SOT_SMD:SOT-23-5; Datasheet: http://www.ti.com/lit/ds/symlink/tps736.pdf; Description_: Cap free NMOS 400mA Low Drop 2.5V Regulator, SOT-23-5
pins: 1 IN, 2 GND, 3 EN, 4 NR, 5 OUT

## TPS73630DBV
designator *  value TPS73630DBV  Reference: U
Cap free NMOS 400mA Low Drop 3.0V Regulator, SOT-23-5; ki_keywords: Cap free Fixed LDO 400mA; ki_fp_filters: SOT?23*; Footprint: Package_TO_SOT_SMD:SOT-23-5; Datasheet: http://www.ti.com/lit/ds/symlink/tps736.pdf; Description_: Cap free NMOS 400mA Low Drop 3.0V Regulator, SOT-23-5
pins: 1 IN, 2 GND, 3 EN, 4 NR, 5 OUT

## TPS73632DBV
designator *  value TPS73632DBV  Reference: U
Cap free NMOS 400mA Low Drop 3.2V Regulator, SOT-23-5; ki_keywords: Cap free Fixed LDO 400mA; ki_fp_filters: SOT?23*; Footprint: Package_TO_SOT_SMD:SOT-23-5; Datasheet: http://www.ti.com/lit/ds/symlink/tps736.pdf; Description_: Cap free NMOS 400mA Low Drop 3.2V Regulator, SOT-23-5
pins: 1 IN, 2 GND, 3 EN, 4 NR, 5 OUT

## TPS73633DBV
designator *  value TPS73633DBV  Reference: U
Cap free NMOS 400mA Low Drop 3.3V Regulator, SOT-23-5; ki_keywords: Cap free Fixed LDO 400mA; ki_fp_filters: SOT?23*; Footprint: Package_TO_SOT_SMD:SOT-23-5; Datasheet: http://www.ti.com/lit/ds/symlink/tps736.pdf; Description_: Cap free NMOS 400mA Low Drop 3.3V Regulator, SOT-23-5
pins: 1 IN, 2 GND, 3 EN, 4 NR, 5 OUT

## TPS73643DBV
designator *  value TPS73643DBV  Reference: U
Cap free NMOS 400mA Low Drop 4.3V Regulator, SOT-23-5; ki_keywords: Cap free Fixed LDO 400mA; ki_fp_filters: SOT?23*; Footprint: Package_TO_SOT_SMD:SOT-23-5; Datasheet: http://www.ti.com/lit/ds/symlink/tps736.pdf; Description_: Cap free NMOS 400mA Low Drop 4.3V Regulator, SOT-23-5
pins: 1 IN, 2 GND, 3 EN, 4 NR, 5 OUT

## TPS74401_VQFN
designator *  value TPS74401_VQFN  Reference: U
0.8 to 3.6V adjustable, 3.0-A, Ultra-LDO with Programmable Soft-Start; ki_keywords: LDO Voltage Regulator; ki_fp_filters: Texas*VQFN*RGR* Texas*VQFN*RGW*; Datasheet: http://www.ti.com/general/docs/lit/getliterature.tsp?genericPartNumber=tps74401&fileType=pdf; Description_: 0.8 to 3.6V adjustable, 3.0-A, Ultra-LDO with Programmable Soft-Start
pins: 1 OUT, 2 NC, 3 NC, 4 NC, 5 IN, 6 IN, 7 IN, 8 IN, 9 PG, 10 BIAS, 11 EN, 12 GND, 13 NC, 14 NC, 15 SS, 16 FB, 17 NC, 18 OUT, 19 OUT, 20 OUT, 21 EP

## TPS74801AWDRC
designator *  value TPS74801AWDRC  Reference: U
Texas Instruments 1.5A, Low-Dropout Linear Regulator With Programmable Soft-Start, 0.8-6.0Vin, 2.7-6.0Vbias, 0.8-3.6Vout; ki_keywords: regulator LDO positive adjustable; ki_fp_filters: VSON*EP*3x3mm*P0.5mm*; Footprint: Package_SON:VSON-10-1EP_3x3mm_P0.5mm_EP1.65x2.4mm_ThermalVias; Datasheet: https://www.ti.com/lit/ds/symlink/tps748a.pdf; Description_: Texas Instruments 1.5A, Low-Dropout Linear Regulator With Programmable Soft-Start, 0.8-6.0Vin, 2.7-6.0Vbias, 0.8-3.6Vout
pins: 1 IN, 2 IN, 3 PG, 4 BIAS, 5 EN, 6 GND, 7 SS, 8 FB, 9 OUT, 10 OUT, 11 GND

## TPS74801DRC
designator *  value TPS74801DRC  Reference: U
Texas Instruments 1.5A, Low-Dropout Linear Regulator With Programmable Soft-Start, 0.8-5.5Vin, 2.7-6.0Vbias, 0.8-3.6Vout; ki_keywords: regulator LDO positive adjustable; ki_fp_filters: VSON*EP*3x3mm*P0.5mm*; Footprint: Package_SON:VSON-10-1EP_3x3mm_P0.5mm_EP1.65x2.4mm_ThermalVias; Datasheet: https://www.ti.com/lit/ds/symlink/tps74801.pdf; Description_: Texas Instruments 1.5A, Low-Dropout Linear Regulator With Programmable Soft-Start, 0.8-5.5Vin, 2.7-6.0Vbias, 0.8-3.6Vout
pins: 1 IN, 2 IN, 3 PG, 4 BIAS, 5 EN, 6 GND, 7 SS, 8 FB, 9 OUT, 10 OUT, 11 GND

## TPS75005RGW
designator *  value TPS75005RGW  Reference: U
Integrated MCU Power Solution, Dual Low Drop-Out Regulator 500mA with Supervisor, VQFN20; ki_keywords: Dual LDO Regulator Dual Integrated Power SVS Supervisor; ki_fp_filters: QFN*5x5mm*P0.65mm*; Footprint: Package_DFN_QFN:QFN-20-1EP_5x5mm_P0.65mm_EP3.35x3.35mm; Datasheet: http://www.ti.com/lit/ds/symlink/tps75005.pdf; Description_: Integrated MCU Power Solution, Dual Low Drop-Out Regulator 500mA with Supervisor, VQFN20
pins: 1 OUT2, 2 OUT2_S, 3 CT2, 4 SS2, 5 VDET, 6 GND, 7 GND, 8 SEQ, 9 VSET, 10 PG, 11 TEST, 12 SS1, 13 CT1, 14 OUT1_S, 15 OUT1, 16 VMON, 17 EN, 18 IN, 19 IN, 20 NC, 21 PAD

## TPS76301
designator *  value TPS76301  Reference: U
Low power 150mA LDO variable output voltage, SOT-23-5; ki_keywords: linear low dropout Regulator adjustable; ki_fp_filters: SOT?23*; Footprint: Package_TO_SOT_SMD:SOT-23-5; Datasheet: http://www.ti.com/lit/ds/symlink/tps763.pdf; Description_: Low power 150mA LDO variable output voltage, SOT-23-5
pins: 1 VIN, 2 GND, 3 EN, 4 FB, 5 VOUT

## TPS76316
designator *  value TPS76316  Reference: U
Low power 150mA LDO, 1.6V fixed output voltage, SOT-23-5; ki_keywords: linear low dropout Regulator; ki_fp_filters: SOT?23*; Footprint: Package_TO_SOT_SMD:SOT-23-5; Datasheet: http://www.ti.com/lit/ds/symlink/tps763.pdf; Description_: Low power 150mA LDO, 1.6V fixed output voltage, SOT-23-5
pins: 1 VIN, 2 GND, 3 EN, 4 NC, 5 VOUT

## TPS76318
designator *  value TPS76318  Reference: U
Low power 150mA LDO 1.8V fixed output voltage, SOT-23-5; ki_keywords: linear low dropout Regulator fixed; ki_fp_filters: SOT?23*; Footprint: Package_TO_SOT_SMD:SOT-23-5; Datasheet: http://www.ti.com/lit/ds/symlink/tps763.pdf; Description_: Low power 150mA LDO 1.8V fixed output voltage, SOT-23-5
pins: 1 VIN, 2 GND, 3 EN, 4 NC, 5 VOUT

## TPS76325
designator *  value TPS76325  Reference: U
Low power 150mA LDO 2.5V fixed output voltage, SOT-23-5; ki_keywords: linear low dropout Regulator fixed; ki_fp_filters: SOT?23*; Footprint: Package_TO_SOT_SMD:SOT-23-5; Datasheet: http://www.ti.com/lit/ds/symlink/tps763.pdf; Description_: Low power 150mA LDO 2.5V fixed output voltage, SOT-23-5
pins: 1 VIN, 2 GND, 3 EN, 4 NC, 5 VOUT

## TPS76327
designator *  value TPS76327  Reference: U
Low power 150mA LDO 2.7V fixed output voltage, SOT-23-5; ki_keywords: linear low dropout Regulator fixed; ki_fp_filters: SOT?23*; Footprint: Package_TO_SOT_SMD:SOT-23-5; Datasheet: http://www.ti.com/lit/ds/symlink/tps763.pdf; Description_: Low power 150mA LDO 2.7V fixed output voltage, SOT-23-5
pins: 1 VIN, 2 GND, 3 EN, 4 NC, 5 VOUT

## TPS76329
designator *  value TPS76329  Reference: U
Low power 150mA LDO 2.8V fixed output voltage, SOT-23-5; ki_keywords: linear low dropout Regulator fixed; ki_fp_filters: SOT?23*; Footprint: Package_TO_SOT_SMD:SOT-23-5; Datasheet: http://www.ti.com/lit/ds/symlink/tps763.pdf; Description_: Low power 150mA LDO 2.8V fixed output voltage, SOT-23-5
pins: 1 VIN, 2 GND, 3 EN, 4 NC, 5 VOUT

## TPS76330
designator *  value TPS76330  Reference: U
Low power 150mA LDO 3.0V fixed output voltage, SOT-23-5; ki_keywords: linear low dropout Regulator fixed; ki_fp_filters: SOT?23*; Footprint: Package_TO_SOT_SMD:SOT-23-5; Datasheet: http://www.ti.com/lit/ds/symlink/tps763.pdf; Description_: Low power 150mA LDO 3.0V fixed output voltage, SOT-23-5
pins: 1 VIN, 2 GND, 3 EN, 4 NC, 5 VOUT

## TPS76333
designator *  value TPS76333  Reference: U
Low power 150mA LDO 3.3V fixed output voltage, SOT-23-5; ki_keywords: linear low dropout Regulator fixed; ki_fp_filters: SOT?23*; Footprint: Package_TO_SOT_SMD:SOT-23-5; Datasheet: http://www.ti.com/lit/ds/symlink/tps763.pdf; Description_: Low power 150mA LDO 3.3V fixed output voltage, SOT-23-5
pins: 1 VIN, 2 GND, 3 EN, 4 NC, 5 VOUT

## TPS76338
designator *  value TPS76338  Reference: U
Low power 150mA LDO 3.8V fixed output voltage, SOT-23-5; ki_keywords: linear low dropout Regulator fixed; ki_fp_filters: SOT?23*; Footprint: Package_TO_SOT_SMD:SOT-23-5; Datasheet: http://www.ti.com/lit/ds/symlink/tps763.pdf; Description_: Low power 150mA LDO 3.8V fixed output voltage, SOT-23-5
pins: 1 VIN, 2 GND, 3 EN, 4 NC, 5 VOUT

## TPS76350
designator *  value TPS76350  Reference: U
Low power 150mA LDO 5.0V fixed output voltage, SOT-23-5; ki_keywords: linear low dropout Regulator fixed; ki_fp_filters: SOT?23*; Footprint: Package_TO_SOT_SMD:SOT-23-5; Datasheet: http://www.ti.com/lit/ds/symlink/tps763.pdf; Description_: Low power 150mA LDO 5.0V fixed output voltage, SOT-23-5
pins: 1 VIN, 2 GND, 3 EN, 4 NC, 5 VOUT

## TPS76901
designator *  value TPS76901  Reference: U
Ultra Low Power 100mA Low Drop Adjustable Out Regulator, SOT-23-5; ki_keywords: Ultra Low Power Adjustable LDO 100mA; ki_fp_filters: SOT?23*; Footprint: Package_TO_SOT_SMD:SOT-23-5; Datasheet: http://www.ti.com/lit/ds/symlink/tps769.pdf; Description_: Ultra Low Power 100mA Low Drop Adjustable Out Regulator, SOT-23-5
pins: 1 IN, 2 GND, 3 ~{{EN}}, 4 FB, 5 OUT

## TPS76912
designator *  value TPS76912  Reference: U
Ultra Low Power 100mA Low Drop Out Regulator 1.2V, SOT-23-5; ki_keywords: Ultra Low Power Fixed LDO 100mA; ki_fp_filters: SOT?23*; Footprint: Package_TO_SOT_SMD:SOT-23-5; Datasheet: http://www.ti.com/lit/ds/symlink/tps769.pdf; Description_: Ultra Low Power 100mA Low Drop Out Regulator 1.2V, SOT-23-5
pins: 1 IN, 2 GND, 3 ~{{EN}}, 4 NC, 5 OUT

## TPS76915
designator *  value TPS76915  Reference: U
Ultra Low Power 100mA Low Drop Out Regulator 1.5V, SOT-23-5; ki_keywords: Ultra Low Power Fixed LDO 100mA; ki_fp_filters: SOT?23*; Footprint: Package_TO_SOT_SMD:SOT-23-5; Datasheet: http://www.ti.com/lit/ds/symlink/tps769.pdf; Description_: Ultra Low Power 100mA Low Drop Out Regulator 1.5V, SOT-23-5
pins: 1 IN, 2 GND, 3 ~{{EN}}, 4 NC, 5 OUT

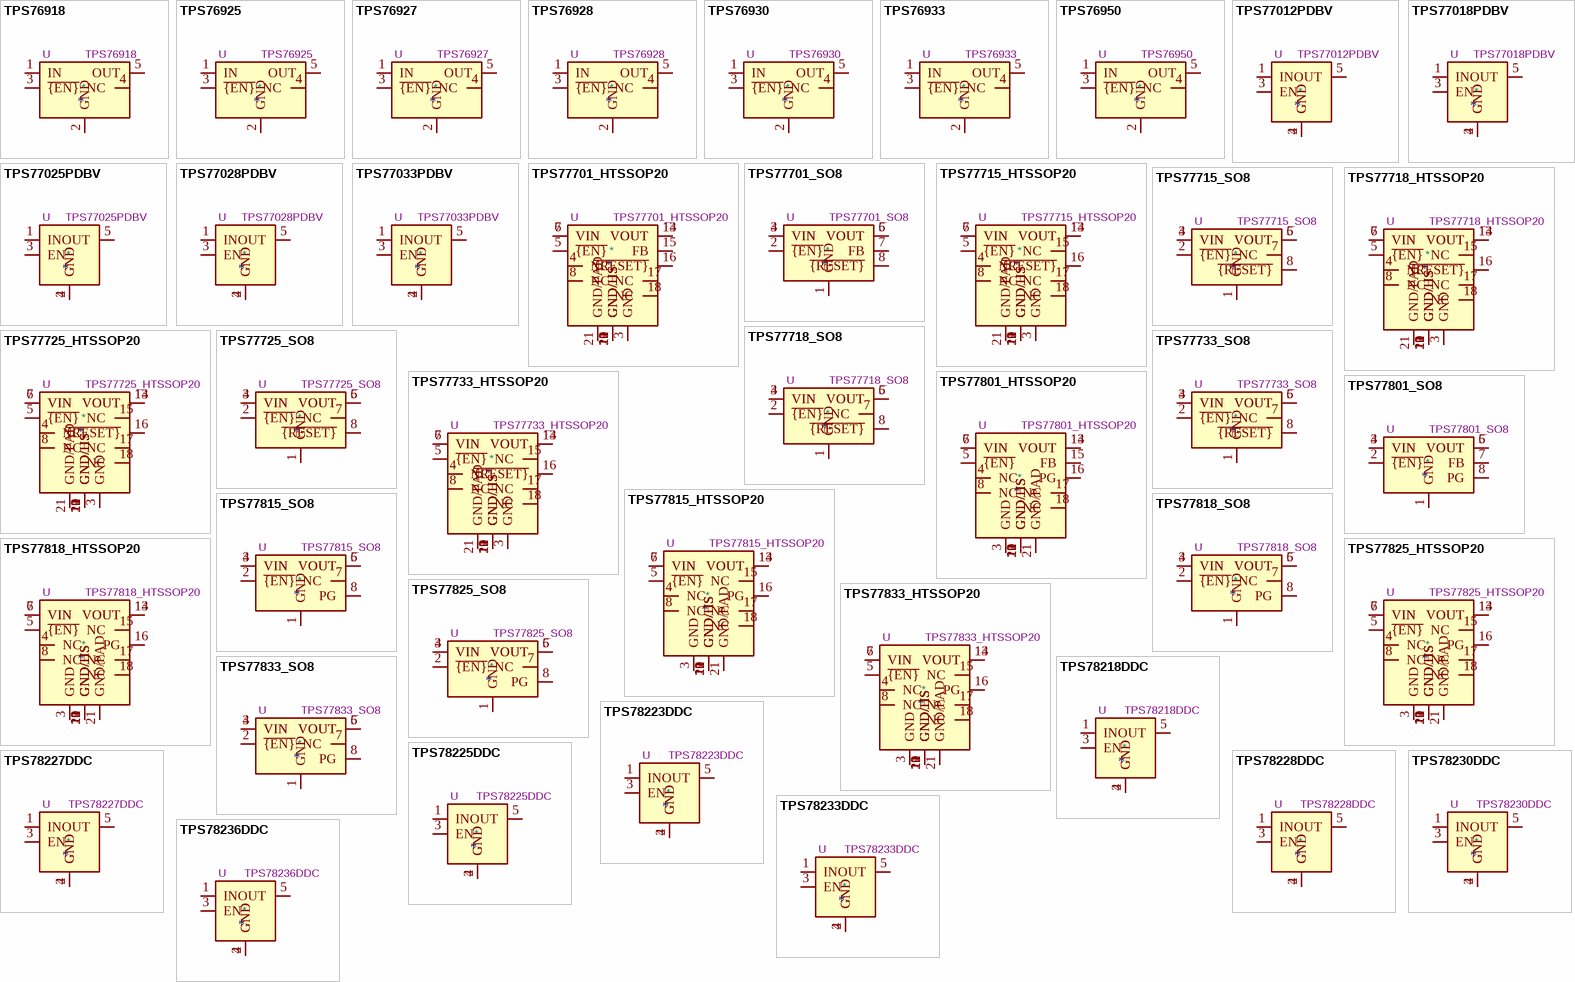
[diagram p39: symbols TPS76918 to TPS78236DDC]

## TPS76918
designator *  value TPS76918  Reference: U
Ultra Low Power 100mA Low Drop Out Regulator 1.8V, SOT-23-5; ki_keywords: Ultra Low Power Fixed LDO 100mA; ki_fp_filters: SOT?23*; Footprint: Package_TO_SOT_SMD:SOT-23-5; Datasheet: http://www.ti.com/lit/ds/symlink/tps769.pdf; Description_: Ultra Low Power 100mA Low Drop Out Regulator 1.8V, SOT-23-5
pins: 1 IN, 2 GND, 3 ~{{EN}}, 4 NC, 5 OUT

## TPS76925
designator *  value TPS76925  Reference: U
Ultra Low Power 100mA Low Drop Out Regulator 2.5V, SOT-23-5; ki_keywords: Ultra Low Power Fixed LDO 100mA; ki_fp_filters: SOT?23*; Footprint: Package_TO_SOT_SMD:SOT-23-5; Datasheet: http://www.ti.com/lit/ds/symlink/tps769.pdf; Description_: Ultra Low Power 100mA Low Drop Out Regulator 2.5V, SOT-23-5
pins: 1 IN, 2 GND, 3 ~{{EN}}, 4 NC, 5 OUT

## TPS76927
designator *  value TPS76927  Reference: U
Ultra Low Power 100mA Low Drop Out Regulator 2.7V, SOT-23-5; ki_keywords: Ultra Low Power Fixed LDO 100mA; ki_fp_filters: SOT?23*; Footprint: Package_TO_SOT_SMD:SOT-23-5; Datasheet: http://www.ti.com/lit/ds/symlink/tps769.pdf; Description_: Ultra Low Power 100mA Low Drop Out Regulator 2.7V, SOT-23-5
pins: 1 IN, 2 GND, 3 ~{{EN}}, 4 NC, 5 OUT

## TPS76928
designator *  value TPS76928  Reference: U
Ultra Low Power 100mA Low Drop Out Regulator 2.8V, SOT-23-5; ki_keywords: Ultra Low Power Fixed LDO 100mA; ki_fp_filters: SOT?23*; Footprint: Package_TO_SOT_SMD:SOT-23-5; Datasheet: http://www.ti.com/lit/ds/symlink/tps769.pdf; Description_: Ultra Low Power 100mA Low Drop Out Regulator 2.8V, SOT-23-5
pins: 1 IN, 2 GND, 3 ~{{EN}}, 4 NC, 5 OUT

## TPS76930
designator *  value TPS76930  Reference: U
Ultra Low Power 100mA Low Drop Out Regulator 3.0V, SOT-23-5; ki_keywords: Ultra Low Power Fixed LDO 100mA; ki_fp_filters: SOT?23*; Footprint: Package_TO_SOT_SMD:SOT-23-5; Datasheet: http://www.ti.com/lit/ds/symlink/tps769.pdf; Description_: Ultra Low Power 100mA Low Drop Out Regulator 3.0V, SOT-23-5
pins: 1 IN, 2 GND, 3 ~{{EN}}, 4 NC, 5 OUT

## TPS76933
designator *  value TPS76933  Reference: U
Ultra Low Power 100mA Low Drop Out Regulator 3.3V, SOT-23-5; ki_keywords: Ultra Low Power Fixed LDO 100mA; ki_fp_filters: SOT?23*; Footprint: Package_TO_SOT_SMD:SOT-23-5; Datasheet: http://www.ti.com/lit/ds/symlink/tps769.pdf; Description_: Ultra Low Power 100mA Low Drop Out Regulator 3.3V, SOT-23-5
pins: 1 IN, 2 GND, 3 ~{{EN}}, 4 NC, 5 OUT

## TPS76950
designator *  value TPS76950  Reference: U
Ultra Low Power 100mA Low Drop Out Regulator 5.0V, SOT-23-5; ki_keywords: Ultra Low Power Fixed LDO 100mA 5V; ki_fp_filters: SOT?23*; Footprint: Package_TO_SOT_SMD:SOT-23-5; Datasheet: http://www.ti.com/lit/ds/symlink/tps769.pdf; Description_: Ultra Low Power 100mA Low Drop Out Regulator 5.0V, SOT-23-5
pins: 1 IN, 2 GND, 3 ~{{EN}}, 4 NC, 5 OUT

## TPS77012PDBV
designator *  value TPS77012PDBV  Reference: U
50-mA fixed LDO, 1.2V, active output discharge, 55dB@1MHz PSRR, 1.42..5.5Vin, 45mV dropout, SOT-23-5; ki_keywords: Single-Output power-supply-rejection-ration low-dropout-regulator; ki_fp_filters: SOT?23*; Footprint: Package_TO_SOT_SMD:SOT-23-5; Datasheet: https://www.ti.com/lit/ds/symlink/tlv770.pdf; Description_: 50-mA fixed LDO, 1.2V, active output discharge, 55dB@1MHz PSRR, 1.42..5.5Vin, 45mV dropout, SOT-23-5
pins: 1 IN, 2 GND, 3 EN, 4 GND, 5 OUT

## TPS77018PDBV
designator *  value TPS77018PDBV  Reference: U
50-mA fixed LDO, 1.8V, active output discharge, 55dB@1MHz PSRR, 1.86..5.5Vin, 45mV dropout, SOT-23-5; ki_keywords: Single-Output power-supply-rejection-ration low-dropout-regulator; ki_fp_filters: SOT?23*; Footprint: Package_TO_SOT_SMD:SOT-23-5; Datasheet: https://www.ti.com/lit/ds/symlink/tlv770.pdf; Description_: 50-mA fixed LDO, 1.8V, active output discharge, 55dB@1MHz PSRR, 1.86..5.5Vin, 45mV dropout, SOT-23-5
pins: 1 IN, 2 GND, 3 EN, 4 GND, 5 OUT

## TPS77025PDBV
designator *  value TPS77025PDBV  Reference: U
50-mA fixed LDO, 2.5V, active output discharge, 55dB@1MHz PSRR, 2.55..5.5Vin, 45mV dropout, SOT-23-5; ki_keywords: Single-Output power-supply-rejection-ration low-dropout-regulator; ki_fp_filters: SOT?23*; Footprint: Package_TO_SOT_SMD:SOT-23-5; Datasheet: https://www.ti.com/lit/ds/symlink/tlv770.pdf; Description_: 50-mA fixed LDO, 2.5V, active output discharge, 55dB@1MHz PSRR, 2.55..5.5Vin, 45mV dropout, SOT-23-5
pins: 1 IN, 2 GND, 3 EN, 4 GND, 5 OUT

## TPS77028PDBV
designator *  value TPS77028PDBV  Reference: U
50-mA fixed LDO, 2.8V, active output discharge, 55dB@1MHz PSRR, 2.85..5.5Vin, 45mV dropout, SOT-23-5; ki_keywords: Single-Output power-supply-rejection-ration low-dropout-regulator; ki_fp_filters: SOT?23*; Footprint: Package_TO_SOT_SMD:SOT-23-5; Datasheet: https://www.ti.com/lit/ds/symlink/tlv770.pdf; Description_: 50-mA fixed LDO, 2.8V, active output discharge, 55dB@1MHz PSRR, 2.85..5.5Vin, 45mV dropout, SOT-23-5
pins: 1 IN, 2 GND, 3 EN, 4 GND, 5 OUT

## TPS77033PDBV
designator *  value TPS77033PDBV  Reference: U
50-mA fixed LDO, 3.3V, active output discharge, 55dB@1MHz PSRR, 3.35..5.5Vin, 45mV dropout, SOT-23-5; ki_keywords: Single-Output power-supply-rejection-ration low-dropout-regulator; ki_fp_filters: SOT?23*; Footprint: Package_TO_SOT_SMD:SOT-23-5; Datasheet: https://www.ti.com/lit/ds/symlink/tlv770.pdf; Description_: 50-mA fixed LDO, 3.3V, active output discharge, 55dB@1MHz PSRR, 3.35..5.5Vin, 45mV dropout, SOT-23-5
pins: 1 IN, 2 GND, 3 EN, 4 GND, 5 OUT

## TPS77701_HTSSOP20
designator *  value TPS77701_HTSSOP20  Reference: U
750mA Fast-Transient Low Dropout Voltage Regulator, Adjustable Output 1.5-5.5V, HTSSOP20; ki_keywords: 750mA LDO Regulator Adjustable Positive; ki_fp_filters: HTSSOP*4.4x6.5mm*P0.65mm*; Footprint: Package_SO:HTSSOP-20-1EP_4.4x6.5mm_P0.65mm_EP3.4x6.5mm_ThermalVias; Datasheet: http://www.ti.com/lit/ds/symlink/tps777.pdf; Description_: 750mA Fast-Transient Low Dropout Voltage Regulator, Adjustable Output 1.5-5.5V, HTSSOP20
pins: 1 GND/HS, 2 GND/HS, 3 GND, 4 NC, 5 ~{{EN}}, 6 VIN, 7 VIN, 8 NC, 9 GND/HS, 10 GND/HS, 11 GND/HS, 12 GND/HS, 13 VOUT, 14 VOUT, 15 FB, 16 ~{{RESET}}, 17 NC, 18 NC, 19 GND/HS, 20 GND/HS, 21 GND/PAD

## TPS77701_SO8
designator *  value TPS77701_SO8  Reference: U
750mA Fast-Transient Low Dropout Voltage Regulator, Adjustable Output 1.5-5.5V, SO-8; ki_keywords: 750mA LDO Regulator Adjustable Positive; ki_fp_filters: SOIC*3.9x4.9mm*P1.27mm*; Footprint: Package_SO:SOIC-8_3.9x4.9mm_P1.27mm; Datasheet: http://www.ti.com/lit/ds/symlink/tps777.pdf; Description_: 750mA Fast-Transient Low Dropout Voltage Regulator, Adjustable Output 1.5-5.5V, SO-8
pins: 1 GND, 2 ~{{EN}}, 3 VIN, 4 VIN, 5 VOUT, 6 VOUT, 7 FB, 8 ~{{RESET}}

## TPS77715_HTSSOP20
designator *  value TPS77715_HTSSOP20  Reference: U
750mA Fast-Transient Low Dropout Voltage Regulator, Fixed Output 1.5V, HTSSOP20; ki_keywords: 750mA LDO Regulator Fixed Positive; ki_fp_filters: HTSSOP*4.4x6.5mm*P0.65mm*; Footprint: Package_SO:HTSSOP-20-1EP_4.4x6.5mm_P0.65mm_EP3.4x6.5mm_ThermalVias; Datasheet: http://www.ti.com/lit/ds/symlink/tps777.pdf; Description_: 750mA Fast-Transient Low Dropout Voltage Regulator, Fixed Output 1.5V, HTSSOP20
pins: 1 GND/HS, 2 GND/HS, 3 GND, 4 NC, 5 ~{{EN}}, 6 VIN, 7 VIN, 8 NC, 9 GND/HS, 10 GND/HS, 11 GND/HS, 12 GND/HS, 13 VOUT, 14 VOUT, 15 NC, 16 ~{{RESET}}, 17 NC, 18 NC, 19 GND/HS, 20 GND/HS, 21 GND/PAD

## TPS77715_SO8
designator *  value TPS77715_SO8  Reference: U
750mA Fast-Transient Low Dropout Voltage Regulator, Fixed Output 1.5V, SO-8; ki_keywords: 750mA LDO Regulator Fixed Positive; ki_fp_filters: SOIC*3.9x4.9mm*P1.27mm*; Footprint: Package_SO:SOIC-8_3.9x4.9mm_P1.27mm; Datasheet: http://www.ti.com/lit/ds/symlink/tps777.pdf; Description_: 750mA Fast-Transient Low Dropout Voltage Regulator, Fixed Output 1.5V, SO-8
pins: 1 GND, 2 ~{{EN}}, 3 VIN, 4 VIN, 5 VOUT, 6 VOUT, 7 NC, 8 ~{{RESET}}

## TPS77718_HTSSOP20
designator *  value TPS77718_HTSSOP20  Reference: U
750mA Fast-Transient Low Dropout Voltage Regulator, Fixed Output 1.8V, HTSSOP20; ki_keywords: 750mA LDO Regulator Fixed Positive; ki_fp_filters: HTSSOP*4.4x6.5mm*P0.65mm*; Footprint: Package_SO:HTSSOP-20-1EP_4.4x6.5mm_P0.65mm_EP3.4x6.5mm_ThermalVias; Datasheet: http://www.ti.com/lit/ds/symlink/tps777.pdf; Description_: 750mA Fast-Transient Low Dropout Voltage Regulator, Fixed Output 1.8V, HTSSOP20
pins: 1 GND/HS, 2 GND/HS, 3 GND, 4 NC, 5 ~{{EN}}, 6 VIN, 7 VIN, 8 NC, 9 GND/HS, 10 GND/HS, 11 GND/HS, 12 GND/HS, 13 VOUT, 14 VOUT, 15 NC, 16 ~{{RESET}}, 17 NC, 18 NC, 19 GND/HS, 20 GND/HS, 21 GND/PAD

## TPS77718_SO8
designator *  value TPS77718_SO8  Reference: U
750mA Fast-Transient Low Dropout Voltage Regulator, Fixed Output 1.8V, SO-8; ki_keywords: 750mA LDO Regulator Fixed Positive; ki_fp_filters: SOIC*3.9x4.9mm*P1.27mm*; Footprint: Package_SO:SOIC-8_3.9x4.9mm_P1.27mm; Datasheet: http://www.ti.com/lit/ds/symlink/tps777.pdf; Description_: 750mA Fast-Transient Low Dropout Voltage Regulator, Fixed Output 1.8V, SO-8
pins: 1 GND, 2 ~{{EN}}, 3 VIN, 4 VIN, 5 VOUT, 6 VOUT, 7 NC, 8 ~{{RESET}}

## TPS77725_HTSSOP20
designator *  value TPS77725_HTSSOP20  Reference: U
750mA Fast-Transient Low Dropout Voltage Regulator, Fixed Output 2.5V, HTSSOP20; ki_keywords: 750mA LDO Regulator Fixed Positive; ki_fp_filters: HTSSOP*4.4x6.5mm*P0.65mm*; Footprint: Package_SO:HTSSOP-20-1EP_4.4x6.5mm_P0.65mm_EP3.4x6.5mm_ThermalVias; Datasheet: http://www.ti.com/lit/ds/symlink/tps777.pdf; Description_: 750mA Fast-Transient Low Dropout Voltage Regulator, Fixed Output 2.5V, HTSSOP20
pins: 1 GND/HS, 2 GND/HS, 3 GND, 4 NC, 5 ~{{EN}}, 6 VIN, 7 VIN, 8 NC, 9 GND/HS, 10 GND/HS, 11 GND/HS, 12 GND/HS, 13 VOUT, 14 VOUT, 15 NC, 16 ~{{RESET}}, 17 NC, 18 NC, 19 GND/HS, 20 GND/HS, 21 GND/PAD

## TPS77725_SO8
designator *  value TPS77725_SO8  Reference: U
750mA Fast-Transient Low Dropout Voltage Regulator, Fixed Output 2.5V, SO-8; ki_keywords: 750mA LDO Regulator Fixed Positive; ki_fp_filters: SOIC*3.9x4.9mm*P1.27mm*; Footprint: Package_SO:SOIC-8_3.9x4.9mm_P1.27mm; Datasheet: http://www.ti.com/lit/ds/symlink/tps777.pdf; Description_: 750mA Fast-Transient Low Dropout Voltage Regulator, Fixed Output 2.5V, SO-8
pins: 1 GND, 2 ~{{EN}}, 3 VIN, 4 VIN, 5 VOUT, 6 VOUT, 7 NC, 8 ~{{RESET}}

## TPS77733_HTSSOP20
designator *  value TPS77733_HTSSOP20  Reference: U
750mA Fast-Transient Low Dropout Voltage Regulator, Fixed Output 3.3V, HTSSOP20; ki_keywords: 750mA LDO Regulator Fixed Positive; ki_fp_filters: HTSSOP*4.4x6.5mm*P0.65mm*; Footprint: Package_SO:HTSSOP-20-1EP_4.4x6.5mm_P0.65mm_EP3.4x6.5mm_ThermalVias; Datasheet: http://www.ti.com/lit/ds/symlink/tps777.pdf; Description_: 750mA Fast-Transient Low Dropout Voltage Regulator, Fixed Output 3.3V, HTSSOP20
pins: 1 GND/HS, 2 GND/HS, 3 GND, 4 NC, 5 ~{{EN}}, 6 VIN, 7 VIN, 8 NC, 9 GND/HS, 10 GND/HS, 11 GND/HS, 12 GND/HS, 13 VOUT, 14 VOUT, 15 NC, 16 ~{{RESET}}, 17 NC, 18 NC, 19 GND/HS, 20 GND/HS, 21 GND/PAD

## TPS77733_SO8
designator *  value TPS77733_SO8  Reference: U
750mA Fast-Transient Low Dropout Voltage Regulator, Fixed Output 3.3V, SO-8; ki_keywords: 750mA LDO Regulator Fixed Positive; ki_fp_filters: SOIC*3.9x4.9mm*P1.27mm*; Footprint: Package_SO:SOIC-8_3.9x4.9mm_P1.27mm; Datasheet: http://www.ti.com/lit/ds/symlink/tps777.pdf; Description_: 750mA Fast-Transient Low Dropout Voltage Regulator, Fixed Output 3.3V, SO-8
pins: 1 GND, 2 ~{{EN}}, 3 VIN, 4 VIN, 5 VOUT, 6 VOUT, 7 NC, 8 ~{{RESET}}

## TPS77801_HTSSOP20
designator *  value TPS77801_HTSSOP20  Reference: U
750mA Fast-Transient Low Dropout Voltage Regulator, Adjustable Output 1.2-5.5V, HTSSOP20; ki_keywords: 750mA LDO Regulator Adjustable Positive; ki_fp_filters: HTSSOP*4.4x6.5mm*P0.65mm*; Footprint: Package_SO:HTSSOP-20-1EP_4.4x6.5mm_P0.65mm_EP3.4x6.5mm_ThermalVias; Datasheet: http://www.ti.com/lit/ds/symlink/tps777.pdf; Description_: 750mA Fast-Transient Low Dropout Voltage Regulator, Adjustable Output 1.2-5.5V, HTSSOP20
pins: 1 GND/HS, 2 GND/HS, 3 GND, 4 NC, 5 ~{{EN}}, 6 VIN, 7 VIN, 8 NC, 9 GND/HS, 10 GND/HS, 11 GND/HS, 12 GND/HS, 13 VOUT, 14 VOUT, 15 FB, 16 PG, 17 NC, 18 NC, 19 GND/HS, 20 GND/HS, 21 GND/PAD

## TPS77801_SO8
designator *  value TPS77801_SO8  Reference: U
750mA Fast-Transient Low Dropout Voltage Regulator, Adjustable Output 1.2-5.5V, SO-8; ki_keywords: 750mA LDO Regulator Adjustable Positive; ki_fp_filters: SOIC*3.9x4.9mm*P1.27mm*; Footprint: Package_SO:SOIC-8_3.9x4.9mm_P1.27mm; Datasheet: http://www.ti.com/lit/ds/symlink/tps777.pdf; Description_: 750mA Fast-Transient Low Dropout Voltage Regulator, Adjustable Output 1.2-5.5V, SO-8
pins: 1 GND, 2 ~{{EN}}, 3 VIN, 4 VIN, 5 VOUT, 6 VOUT, 7 FB, 8 PG

## TPS77815_HTSSOP20
designator *  value TPS77815_HTSSOP20  Reference: U
750mA Fast-Transient Low Dropout Voltage Regulator, Fixed Output 1.5V, HTSSOP20; ki_keywords: 750mA LDO Regulator Fixed Positive; ki_fp_filters: HTSSOP*4.4x6.5mm*P0.65mm*; Footprint: Package_SO:HTSSOP-20-1EP_4.4x6.5mm_P0.65mm_EP3.4x6.5mm_ThermalVias; Datasheet: http://www.ti.com/lit/ds/symlink/tps777.pdf; Description_: 750mA Fast-Transient Low Dropout Voltage Regulator, Fixed Output 1.5V, HTSSOP20
pins: 1 GND/HS, 2 GND/HS, 3 GND, 4 NC, 5 ~{{EN}}, 6 VIN, 7 VIN, 8 NC, 9 GND/HS, 10 GND/HS, 11 GND/HS, 12 GND/HS, 13 VOUT, 14 VOUT, 15 NC, 16 PG, 17 NC, 18 NC, 19 GND/HS, 20 GND/HS, 21 GND/PAD

## TPS77815_SO8
designator *  value TPS77815_SO8  Reference: U
750mA Fast-Transient Low Dropout Voltage Regulator, Fixed Output 1.5V, SO-8; ki_keywords: 750mA LDO Regulator Fixed Positive; ki_fp_filters: SOIC*3.9x4.9mm*P1.27mm*; Footprint: Package_SO:SOIC-8_3.9x4.9mm_P1.27mm; Datasheet: http://www.ti.com/lit/ds/symlink/tps777.pdf; Description_: 750mA Fast-Transient Low Dropout Voltage Regulator, Fixed Output 1.5V, SO-8
pins: 1 GND, 2 ~{{EN}}, 3 VIN, 4 VIN, 5 VOUT, 6 VOUT, 7 NC, 8 PG

## TPS77818_HTSSOP20
designator *  value TPS77818_HTSSOP20  Reference: U
750mA Fast-Transient Low Dropout Voltage Regulator, Fixed Output 1.8V, HTSSOP20; ki_keywords: 750mA LDO Regulator Fixed Positive; ki_fp_filters: HTSSOP*4.4x6.5mm*P0.65mm*; Footprint: Package_SO:HTSSOP-20-1EP_4.4x6.5mm_P0.65mm_EP3.4x6.5mm_ThermalVias; Datasheet: http://www.ti.com/lit/ds/symlink/tps777.pdf; Description_: 750mA Fast-Transient Low Dropout Voltage Regulator, Fixed Output 1.8V, HTSSOP20
pins: 1 GND/HS, 2 GND/HS, 3 GND, 4 NC, 5 ~{{EN}}, 6 VIN, 7 VIN, 8 NC, 9 GND/HS, 10 GND/HS, 11 GND/HS, 12 GND/HS, 13 VOUT, 14 VOUT, 15 NC, 16 PG, 17 NC, 18 NC, 19 GND/HS, 20 GND/HS, 21 GND/PAD

## TPS77818_SO8
designator *  value TPS77818_SO8  Reference: U
750mA Fast-Transient Low Dropout Voltage Regulator, Fixed Output 1.8V, SO-8; ki_keywords: 750mA LDO Regulator Fixed Positive; ki_fp_filters: SOIC*3.9x4.9mm*P1.27mm*; Footprint: Package_SO:SOIC-8_3.9x4.9mm_P1.27mm; Datasheet: http://www.ti.com/lit/ds/symlink/tps777.pdf; Description_: 750mA Fast-Transient Low Dropout Voltage Regulator, Fixed Output 1.8V, SO-8
pins: 1 GND, 2 ~{{EN}}, 3 VIN, 4 VIN, 5 VOUT, 6 VOUT, 7 NC, 8 PG